# EAGLE library part SWITCH4_DıP2SMT (library dip_switch_to_smt)
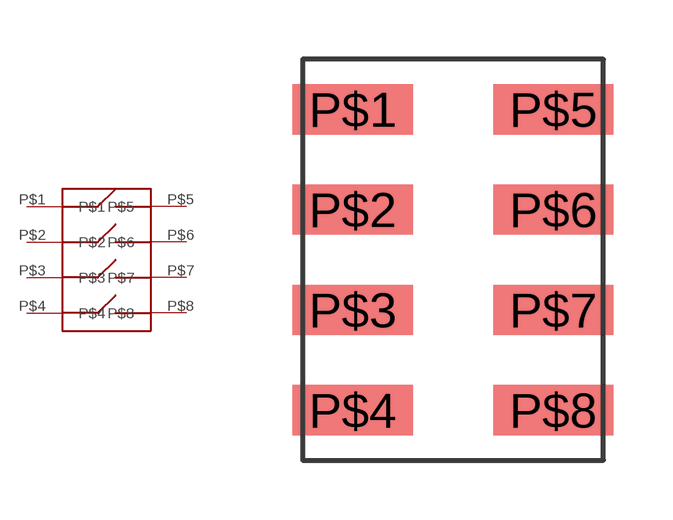
[diagram p0: symbol with the pads of DIP8_TO_SMT8; footprint DIP8_TO_SMT8]

Designator prefix -

## SWITCH4_DıP2SMT  [DIP8_TO_SMT8]
P$1  P$1
P$2  P$2
P$3  P$3
P$4  P$4
P$5  P$5
P$6  P$6
P$7  P$7
P$8  P$8

## Footprint DIP8_TO_SMT8 (pad centres in mm)
smd 3.048 x 1.27: P$1 -2.54,3.81; P$2 -2.54,1.27; P$3 -2.54,-1.27; P$4 -2.54,-3.81; P$5 2.54,3.81; P$6 2.54,1.27; P$7 2.54,-1.27; P$8 2.54,-3.81